# EAGLE library part ITS4880R-PAD (library infineon)
Smart Power High-Side-Switch for Industrial Applications. Eight Channels: 8 x 200 mOhm with thermal pad to bottom side Source: http://www.infineon.com .. ITS4880R_20060309.pdf
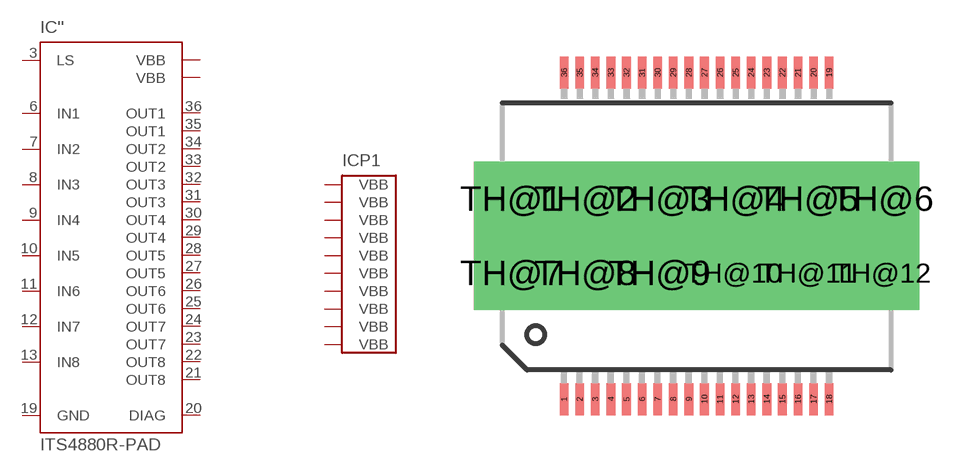
[diagram p4: symbol with the pads of PG-DSO-36PAD; footprint PG-DSO-36PAD]

Designator prefix IC; gates ''=ITS4880R P1=VBB10

## ITS4880R-PAD  [PG-DSO-36PAD]
3  '':LS  in
6  '':IN1  in
7  '':IN2  in
8  '':IN3  in
9  '':IN4  in
10  '':IN5  in
11  '':IN6  in
12  '':IN7  in
13  '':IN8  in
19  '':GND  pwr
20  '':DIAG  out
21  '':OUT8  out
22  '':OUT8  out
23  '':OUT7  out
24  '':OUT7  out
25  '':OUT6  out
26  '':OUT6  out
27  '':OUT5  out
28  '':OUT5  out
29  '':OUT4  out
30  '':OUT4  out
31  '':OUT3  out
32  '':OUT3  out
33  '':OUT2  out
34  '':OUT2  out
35  '':OUT1  out
36  '':OUT1  out
TH@1  '':VBB  in
TH@2  '':VBB  in
TH@3  P1:VBB  pas
TH@4  P1:VBB  pas
TH@5  P1:VBB  pas
TH@6  P1:VBB  pas
TH@7  P1:VBB  pas
TH@8  P1:VBB  pas
TH@9  P1:VBB  pas
TH@10  P1:VBB  pas
TH@11  P1:VBB  pas
TH@12  P1:VBB  pas

## Footprint PG-DSO-36PAD (pad centres in mm)
PG-DSO-36 with thermal on top and bottom Source: http://www.infineon.com .. ITS4880R_20060309.pdf
smd 0.35 x 1.3: 1 -5.355,-6.6; 2 -4.725,-6.6; 3 -4.095,-6.6; 4 -3.465,-6.6; 5 -2.835,-6.6; 6 -2.205,-6.6; 7 -1.575,-6.6; 8 -0.945,-6.6; 9 -0.315,-6.6; 10 0.315,-6.6; 11 0.945,-6.6; 12 1.575,-6.6; 13 2.205,-6.6; 14 2.835,-6.6; 15 3.465,-6.6; 16 4.095,-6.6; 17 4.725,-6.6; 18 5.355,-6.6; 19 5.355,6.6; 20 4.725,6.6; 21 4.095,6.6; 22 3.465,6.6; 23 2.835,6.6; 24 2.205,6.6; 25 1.575,6.6; 26 0.945,6.6; 27 0.315,6.6; 28 -0.315,6.6; 29 -0.945,6.6; 30 -1.575,6.6; 31 -2.205,6.6; 32 -2.835,6.6; 33 -3.465,6.6; 34 -4.095,6.6; 35 -4.725,6.6; 36 -5.355,6.6
drill 0.6 pad 3 square: TH@1 -7.5,1.5; TH@2 -4.5,1.5; TH@3 -1.5,1.5; TH@4 1.5,1.5; TH@5 4.5,1.5; TH@6 7.5,1.5; TH@7 -7.5,-1.5; TH@8 -4.5,-1.5; TH@9 -1.5,-1.5; TH@10 1.5,-1.5; TH@11 4.5,-1.5; TH@12 7.5,-1.5